# Altium schematic symbol library PCIe.SchLib: 7 symbols
Pins are listed as number, name and electrical type; pins without a type are passive.

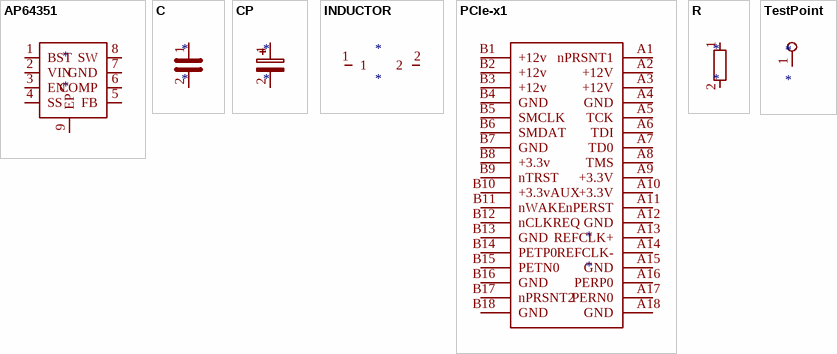
[diagram p0: symbols AP64351 to TestPoint]

## AP64351
designator *
pins: 1 BST, 2 VIN, 3 EN, 4 SS, 5 FB, 6 COMP, 7 GND, 8 SW, 9 EP

## C
designator *
pins: 1, 2

## CP
designator *
pins: 1, 2

## INDUCTOR
designator *
pins: 1, 2

## PCIe-x1
designator *
pins: A1 nPRSNT1, A2 +12V, A3 +12V, A4 GND, A5 TCK, A6 TDI, A7 TD0, A8 TMS, A9 +3.3V, A10 +3.3V, A11 nPERST, A12 GND, A13 REFCLK+, A14 REFCLK-, A15 GND, A16 PERP0, A17 PERN0, A18 GND, B1 +12v, B2 +12v, B3 +12v, B4 GND, B5 SMCLK, B6 SMDAT, B7 GND, B8 +3.3v, B9 nTRST, B10 +3.3vAUX, B11 nWAKE, B12 nCLKREQ, B13 GND, B14 PETP0, B15 PETN0, B16 GND, B17 nPRSNT2, B18 GND

## R
designator *
pins: 1, 2

## TestPoint
designator *
pins: 1